# EAGLE library part IR2104 (library Commande_H)
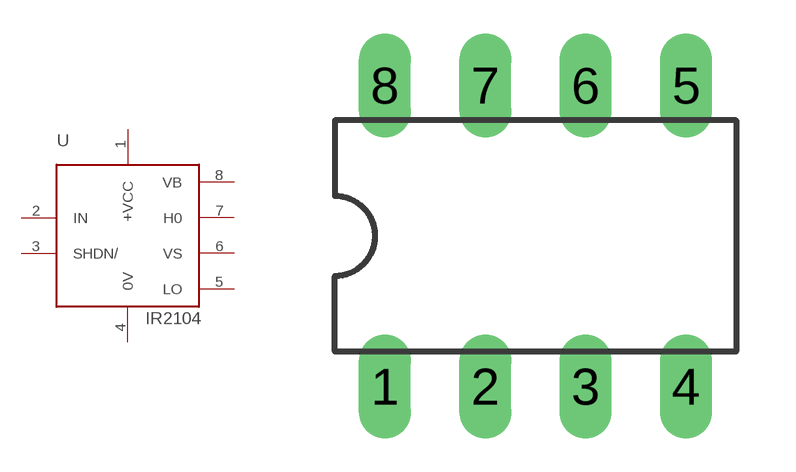
[diagram p0: symbol with the pads of DIL08; footprint DIL08]

Designator prefix U

## IR2104  [DIL08]
1  +VCC  pwr
2  IN  in
3  SHDN/  in
4  0V  pwr
5  LO  out
6  VS  out
7  H0  out
8  VB  out

## Footprint DIL08 (pad centres in mm)
drill 0.813 long: 1 -3.81,-3.81; 2 -1.27,-3.81; 3 1.27,-3.81; 4 3.81,-3.81; 5 3.81,3.81; 6 1.27,3.81; 7 -1.27,3.81; 8 -3.81,3.81